# EAGLE library part AVR-JTAG (library con_STE)
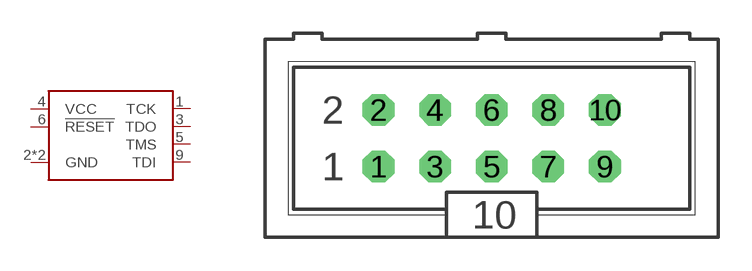
[diagram p1: symbol with the pads of WANNE10G; footprint WANNE10G]

Designator prefix -

## AVR-JTAG-10  [WANNE10G]
1  TCK
2  GND  pwr
3  TDO
4  VCC  pwr
5  TMS
6  !RESET
9  TDI
10  GND  pwr

## Footprint WANNE10G (pad centres in mm)
Wannenstecker, 6polig
drill 0.914 octagon: 1 -5.08,-1.27; 2 -5.08,1.27; 3 -2.54,-1.27; 4 -2.54,1.27; 5 0,-1.27; 6 0,1.27; 7 2.54,-1.27; 8 2.54,1.27; 9 5.08,-1.27; 10 5.08,1.27